# Altium schematic symbol library BMS Library.SchLib: 2 symbols
Pins are listed as number, name and electrical type; pins without a type are passive.

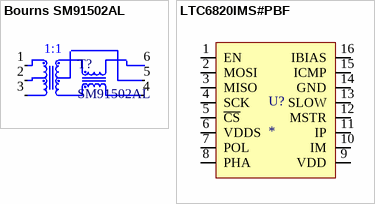
[diagram p0: symbols Bourns SM91502AL to LTC6820IMS#PBF]

## Bourns SM91502AL
designator T?, comment SM91502AL
150µH  Pulse Transformer 1CT:1CT Surface Mount; Supplier 1: Digikey; Supplier 1 Part Number: SM91502ALECT-ND
footprint Bourns SM91502AL
pins: 1, 2, 3, 4, 5, 6
text: 1:1

## LTC6820IMS#PBF
designator U?
IC COMM INTERFACE ISOSPI 16MSOP
footprint 16-MSOP
pins: 1 EN, 2 MOSI, 3 MISO, 4 SCK, 5 ~{CS}, 6 VDDS, 7 POL, 8 PHA, 9 VDD, 10 IM, 11 IP, 12 MSTR, 13 SLOW, 14 GND, 15 ICMP, 16 IBIAS